# Altium footprint library Custom pcb footprint.PcbLib: 87 footprints (part 6 of 6)
Each footprint in its own frame and in the unit in brackets; x right, y up, seen from the top. Pads: shape width x height; smd on the part's side, far side on the other; paste and mask are expansions set on the pad; w line width, h text height; cw(c..) or ccw(c..) is an arc to the next point about the centre after c.
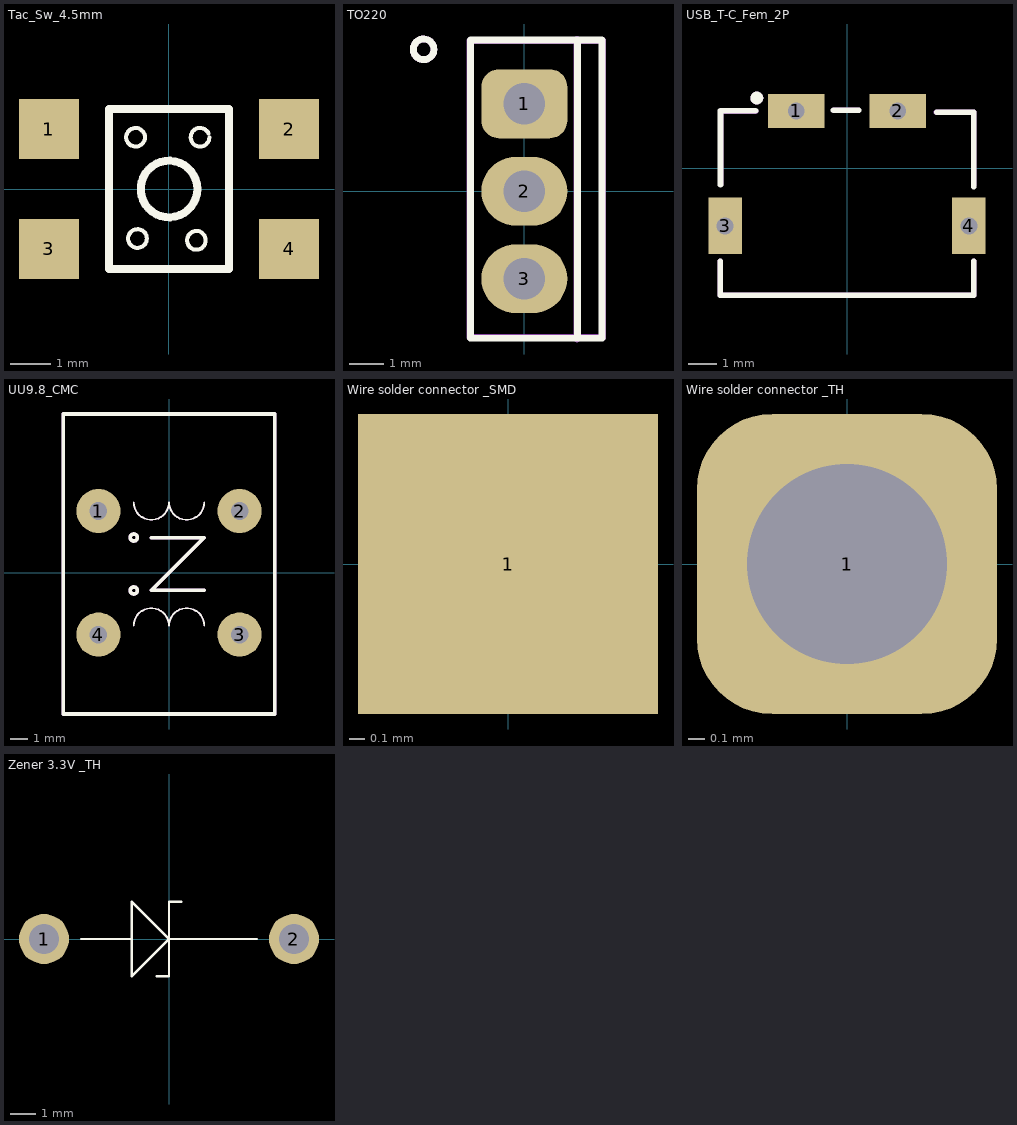
[diagram p5: the footprints below, top view; thin cyan lines are the x and y axes]

## Tac_Sw_4.5mm [mm]
pads (4):
  rect 1.5x1.5 smd: 1(-3,1.5) 2(3,1.5) 3(-3,-1.5) 4(3,-1.5)
Top Overlay:
  circle w0.2: c0,0 r0.707
  circle w0.1: c-0.836,1.293 r0.233
  circle w0.1: c0.685,-1.284 r0.233
  circle w0.1: c-0.788,-1.238 r0.233
  lines w0.1: 0.99,1.384 ccw(c0.775,1.293) 1.008,1.293
  lines w0.2: -1.5,-2 -1.5,2 1.5,2 1.5,-2 -1.5,-2
Top Assembly:
  text "'.Designator'" at -1.577,-0.39 h0.8
3D body "Tac Switch_4.5mm_H4.3mm.step": height 4.55, standoff 0, extent -3.241,-2.25 3.253,2.25

## TO220 [mm] "3 pin transistor 2.54 pitch"
pads (3):
  rrect50% 2.5x2 hole 1.2: 1(0,2.54)
  oval 2.5x2 hole 1.2: 2(0,0) 3(0,-2.54)
Top Overlay:
  circle w0.2: c-2.925,4.123 r0.3
  lines w0.2: 1.546,-4.271 1.546,4.313 ; -1.56,-4.271 -1.56,4.396 2.258,4.396 2.258,-4.271 -1.56,-4.271
Top Assembly:
  circle w0.2: c-2.925,4.123 r0.3
  lines w0.2: 1.535,-4.291 1.535,4.416 ; -1.58,-4.25 -1.58,4.375 2.278,4.375 2.278,-4.25 -1.58,-4.25
  text "'.Designator'" at 3.272,-3.521 h1
3D body "regulator TO-220.step": height 22.32, standoff -6.94, extent -2.362,-5.08 4.445,5.12

## USB_T-C_Fem_2P [mm] "Usb type-c 2pin female_ p=3.6"
pads (4):
  rect 2x1.2 hole 0.6 square: 1(-1.8,2.04) 2(1.8,2.04)
  rect 1.2x2 hole 0.6 square: 3(-4.325,-2.04) 4(4.325,-2.04)
Top Overlay:
  circle w0.254: c-3.2,2.5 r0.1
  lines w0.2: -4.5,-3.3 -4.5,-4.5 4.5,-4.5 4.5,-3.3 ; -4.492,-0.573 -4.492,2.047 -3.249,2.047 ; -0.478,2.066 0.42,2.066 ; 3.185,2 4.5,2 4.5,-0.656
Top Assembly:
  circle w0.254: c-3.2,2.5 r0.1
  lines w0.2: -4.5,-3.3 -4.5,-4.5 4.5,-4.5 4.5,-3.3 ; -4.488,-0.547 -4.488,2.033 -3.249,2.033 ; -0.476,2.066 0.405,2.066 ; 3.176,2 4.5,2 4.5,-0.583
  text "'.Designator'" at -2.834,-2.922 h0.8
3D body "USB type C female 2P.step": height 3.4, standoff -1.44, extent -4.438,-4.494 4.412,2.136

## UU9.8_CMC [mm] "Common mode Filter UU9.8"
pads (4):
  round 2.5 hole 1: 1(-4,3.5) 2(4,3.5) 3(4,-3.5) 4(-4,-3.5)
Top Overlay:
  circle w0.2: c-2,2 r0.2
  circle w0.2: c-2,-1 r0.2
  lines w0.1: -2,-3 cw(c-1,-3) 0,-3 cw(c1,-3) 2,-3 ; -2,4 ccw(c-1,4) 0,4 ccw(c1,4) 2,4
  lines w0.2: -1,2 2,2 -1,-1 2,-1 ; -6,-8 6,-8 6,9 -6,9 -6,-8
Top Assembly:
  circle w0.2: c-2,2 r0.2
  circle w0.2: c-2,-1 r0.2
  lines w0.1: -2,-3 cw(c-1,-3) 0,-3 cw(c1,-3) 2,-3 ; -2,4 ccw(c-1,4) 0,4 ccw(c1,4) 2,4
  lines w0.2: -1,2 2,2 -1,-1 2,-1 ; -6,-8 6,-8 6,9 -6,9 -6,-8
  text "'.Designator'" at -3.895,6.403 h1.52

## Wire solder connector _SMD [mm]
pads (1):
  rect 2x2 smd: 1(0,0)

## Wire solder connector _TH [mm]
pads (1):
  rrect50% 1.8x1.8 hole 1.2: 1(0,0)

## Zener 3.3V _TH [mm] "3.3v Zener TH 10 mm"
pads (2):
  round 2 hole 1.2: 1(-5,0) 2(5,0)
Top Overlay:
  lines w0.1: -3.5,0 -1.5,0 ; -0.5,-1.5 0,-1.5 0,1.5 0.5,1.5 ; 3.5,0 0,0 ; 0,0 -1.5,1.5 -1.5,-1.5 0,0
Top Solder:
  lines w0.1: -3.5,0 -1.5,0 ; -0.5,-1.5 0,-1.5 0,1.5 0.5,1.5 ; 3.5,0 0,0 ; 0,0 -1.5,1.5 -1.5,-1.5 0,0
  text "'.Designator'" at 1.792,-2.036 h0.8
3D body "Zener_3V3_TH.step": height 2.8, standoff -1.5, extent -5.397,-1.3 5.4,1.3